# Altium footprint library PcbLib_indicator.PcbLib: 5 footprints
Each footprint in its own frame and in the unit in brackets; x right, y up, seen from the top. Pads: shape width x height; smd on the part's side, far side on the other; paste and mask are expansions set on the pad; w line width, h text height; cw(c..) or ccw(c..) is an arc to the next point about the centre after c.
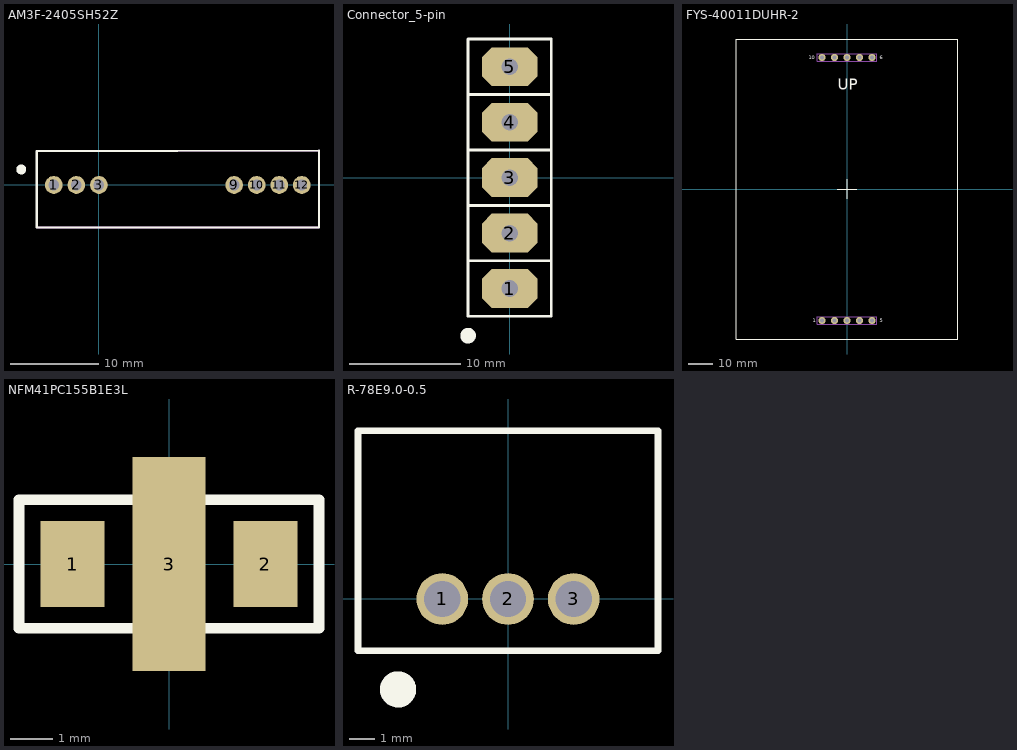
[diagram p0: the footprints below, top view; thin cyan lines are the x and y axes]

## AM3F-2405SH52Z [mm] "DC-DC 5V"
pads (7):
  round 2 hole 1.2: 1(-5.08,0) 2(-2.54,0) 3(0,0) 9(15.24,0) 10(17.78,0) 11(20.32,0) 12(22.86,0)
Top Overlay:
  circle w0.6: c-8.75,1.75 r0.25
  lines w0.254: -7,-4.8 -7,3.789 24.8,3.892 24.8,-4.8 -7,-4.8
Drill Guide:
  lines w0.254: -5.08,0 -2.54,0 0,0 ; 15.24,0 17.78,0 20.32,0 22.86,0
Mechanical 1:
  lines w0.2: -7,-4.8 -7,3.789 24.8,3.892 24.8,-4.8 -7,-4.8
Drill Drawing:
  lines w0.254: -5.08,0 22.86,0

## Connector_5-pin [mm]
pads (5):
  oct 5x3.5 hole 1.5: 1(0,-10) 2(0,-5) 3(0,0) 4(0,5) 5(0,10)
Top Overlay:
  circle w0.8: c-3.75,-14.25 r0.3
  lines w0.254: -3.75,-7.5 3.75,-7.5 ; -3.75,-2.5 3.75,-2.5 ; -3.75,2.5 3.75,2.5 ; -3.75,7.5 3.75,7.5 ; -3.75,-12.5 3.75,-12.5 3.75,0 3.75,12.5 -3.75,12.5 -3.75,0 -3.75,-12.5

## FYS-40011DUHR-2 [mm] "Большой семисегментый индикатор"
pads (10):
  round 2.9 hole 1.75: 1(-10.16,-53.5) 2(-5.08,-53.5) 3(0,-53.5) 4(5.08,-53.5) 5(10.16,-53.5) 6(10.16,53.5) 7(5.08,53.5) 8(0,53.5) 9(-5.08,53.5) 10(-10.16,53.5)
Top Overlay:
  lines w0.25: -45,-61 45,-61 45,0 45,61 -45,61 -45,0 -45,-61
  lines w0.254: -4,0 0,0 ; 0,-4 0,0 ; 0,4 0,0 ; 4,0 0,0
  text "UP" at -3.749,40.3 h4.5
  text "5" at 13.254,-54.246 h1.52
  text "1" at -13.996,-54.246 h1.52
  text "6" at 13.254,52.754 h1.52
  text "10" at -15.496,52.754 h1.52
Mechanical 1:
  lines w0.254: -12,-55 12,-55 12,-52 -12,-52 -12,-55 ; -12,52 12,52 12,55 -12,55 -12,52
Drill Drawing:
  lines w0.254: -10.16,-53.5 -5.08,-53.5 0,-53.5 5.08,-53.5 10.16,-53.5 ; -10.16,53.5 -5.08,53.5 0,53.5 5.08,53.5 10.16,53.5

## NFM41PC155B1E3L [mm]
pads (3):
  rect 1.5x2 smd: 1(-2.25,0) 2(2.25,0)
  rect 1.7x5 smd: 3(0,0)
Top Overlay:
  lines w0.254: -3.5,-1.5 3.5,-1.5 3.5,1.5 -3.5,1.5 -3.5,-1.5
Drill Guide:
  lines w0.254: -2.25,0 0,0 2.25,0
Mechanical 1:
  lines w0.2: -3.5,-1.5 -3.5,1.5 3.5,1.5 3.5,-1.5 -3.5,-1.5

## R-78E9.0-0.5 [mm]
pads (3):
  round 2 hole 1.4: 1(-2.54,0) 2(0,0) 3(2.54,0)
Top Overlay:
  circle w0.8: c-4.25,-3.5 r0.3
  lines w0.254: -5.8,-2 -5.8,6.5 0,6.5 5.8,6.5 5.8,-2 0,-2 -5.8,-2
Mechanical 1:
  lines w0.2: -5.8,-2 0,-2 5.8,-2 5.8,6.5 0,6.5 -5.8,6.5 -5.8,-2
Drill Drawing:
  lines w0.254: -2.54,0 0,0 2.54,0